# Altium schematic symbol library AD9746BCPZ.SchLib: 1 symbol
Pins are listed as number, name and electrical type; pins without a type are passive.

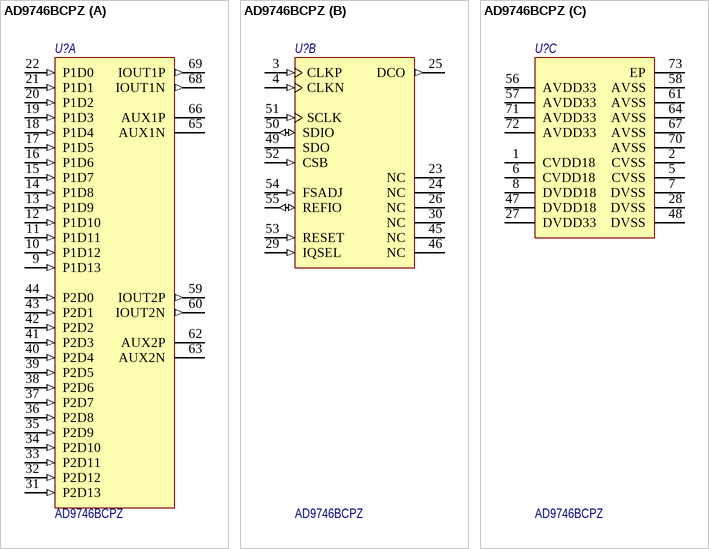
[diagram p0: symbol AD9746BCPZ]

## AD9746BCPZ
designator U?
Dual 14-Bit Digital-to-Analog Converter, 250 Msps, -40 to +85 degC, CP-72-1, Pb-Free, Tray; Потребление, Вт: 0.355; Назначение: Dual 14-Bit Digital-to-Analog Converter, 250 Msps, -40 to +85 degC, CP-72-1, Pb-Free, Tray; ComponentLink1Description: DataSheet; ComponentLink1URL: http://www.analog.com/static/imported-files/data_sheets/AD9741_9743_9745_9746_9747.pdf; Наименование: AD9746BCPZ
footprint LFCSP-72
part A pins: 9 P1D13 (in) "Port 1 Data Bit Input.", 10 P1D12 (in) "Port 1 Data Bit Input.", 11 P1D11 (in) "Port 1 Data Bit Input.", 12 P1D10 (in) "Port 1 Data Bit Input.", 13 P1D9 (in) "Port 1 Data Bit Input.", 14 P1D8 (in) "Port 1 Data Bit Input.", 15 P1D7 (in) "Port 1 Data Bit Input.", 16 P1D6 (in) "Port 1 Data Bit Input.", 17 P1D5 (in) "Port 1 Data Bit Input.", 18 P1D4 (in) "Port 1 Data Bit Input.", 19 P1D3 (in) "Port 1 Data Bit Input.", 20 P1D2 (in) "Port 1 Data Bit Input.", 21 P1D1 (in) "Port 1 Data Bit Input.", 22 P1D0 (in) "Port 1 Data Bit Input.", 31 P2D13 (in) "Port 2 Data Bit Input.", 32 P2D12 (in) "Port 2 Data Bit Input.", 33 P2D11 (in) "Port 2 Data Bit Input.", 34 P2D10 (in) "Port 2 Data Bit Input.", 35 P2D9 (in) "Port 2 Data Bit Input.", 36 P2D8 (in) "Port 2 Data Bit Input.", 37 P2D7 (in) "Port 2 Data Bit Input.", 38 P2D6 (in) "Port 2 Data Bit Input.", 39 P2D5 (in) "Port 2 Data Bit Input.", 40 P2D4 (in) "Port 2 Data Bit Input.", 41 P2D3 (in) "Port 2 Data Bit Input.", 42 P2D2 (in) "Port 2 Data Bit Input.", 43 P2D1 (in) "Port 2 Data Bit Input.", 44 P2D0 (in) "Port 2 Data Bit Input.", 59 IOUT2P (out) "DAC2 Current Output. Sources full-scale current when input data bits are all 1.", 60 IOUT2N (out) "Complementary DAC2 Current Output. Sources full-scale current when data bits are all 0.", 62 AUX2P (hiz) "Auxiliary DAC2 Default Current Output Pin.", 63 AUX2N (hiz) "Auxiliary DAC2 Optional Output Pin. Enable through SPI.", 65 AUX1N (hiz) "Auxiliary DAC1 Optional Output Pin. Enable through SPI.", 66 AUX1P (hiz) "Auxiliary DAC1 Default Current Output Pin.", 68 IOUT1N (out) "Complementary DAC1 Current Output. Sources full-scale current when data bits are all 0.", 69 IOUT1P (out) "DAC1 Current Output. Sources full-scale current when data bits are all 1."
part B pins: 3 CLKP (in) "Differential DAC Clock Input.", 4 CLKN (in) "Complementary Differential DAC Clock Input.", 23 NC "No Connect.", 24 NC "No Connect.", 25 DCO (out) "Data Clock Output. Use to clock data source.", 26 NC "No Connect.", 29 IQSEL (in) "I/Q Framing Signal for Single-Port Mode Operation.", 30 NC "No Connect.", 45 NC "No Connect.", 46 NC "No Connect.", 49 SDO (hiz) "Serial Peripheral Interface Data Output.", 50 SDIO (io) "Serial Peripheral Interface Data Input and Optional Data Output.", 51 SCLK (in) "Serial Peripheral Interface Clock Input.", 52 CSB (in) "Serial Peripheral Interface Chip Select Input. Active low.", 53 RESET (in) "Hardware Reset. Active high.", 54 FSADJ (in) "Full-Scale Current Output Adjust. Connect a 10 kohm resistor to AVSS.", 55 REFIO (io) "Reference Input/Output. Connect a 0.1 uF capacitor to AVSS."
part C pins: 1 CVDD18 (power) "Clock Supply Voltage (1.8 V).", 2 CVSS (power) "Clock Supply Common (0 V).", 5 CVSS (power) "Clock Supply Common (0 V).", 6 CVDD18 (power) "Clock Supply Voltage (1.8 V).", 7 DVSS (power) "Digital Supply Common (0 V).", 8 DVDD18 (power) "Digital Core Supply Voltage (1.8 V).", 27 DVDD33 (power) "Digital I/O Supply Voltage (3.3 V).", 28 DVSS (power) "Digital Supply Common (0 V).", 47 DVDD18 (power) "Digital Core Supply Voltage (1.8 V).", 48 DVSS (power) "Digital Supply Common (0 V).", 56 AVDD33 (power) "Analog Supply Voltage (3.3 V).", 57 AVDD33 (power) "Analog Supply Voltage (3.3 V).", 58 AVSS (power) "Analog Supply Common (0 V).", 61 AVSS (power) "Analog Supply Common (0 V).", 64 AVSS (power) "Analog Supply Common (0 V).", 67 AVSS (power) "Analog Supply Common (0 V).", 70 AVSS (power) "Analog Supply Common (0 V).", 71 AVDD33 (power) "Analog Supply Voltage (3.3 V).", 72 AVDD33 (power) "Analog Supply Voltage (3.3 V).", 73 EP (power) "Exposed Thermal Pad. Must be soldered to copper pour on top surface of PCB for mechanical stability and must be electrically tied to low impedance GND plane for low noise performance."